# Altium footprint library PCB-QFP-WCH-QFN40-5x5.PcbLib: 1 footprints
Each footprint in its own frame and in the unit in brackets; x right, y up, seen from the top. Pads: shape width x height; smd on the part's side, far side on the other; paste and mask are expansions set on the pad; w line width, h text height; cw(c..) or ccw(c..) is an arc to the next point about the centre after c.
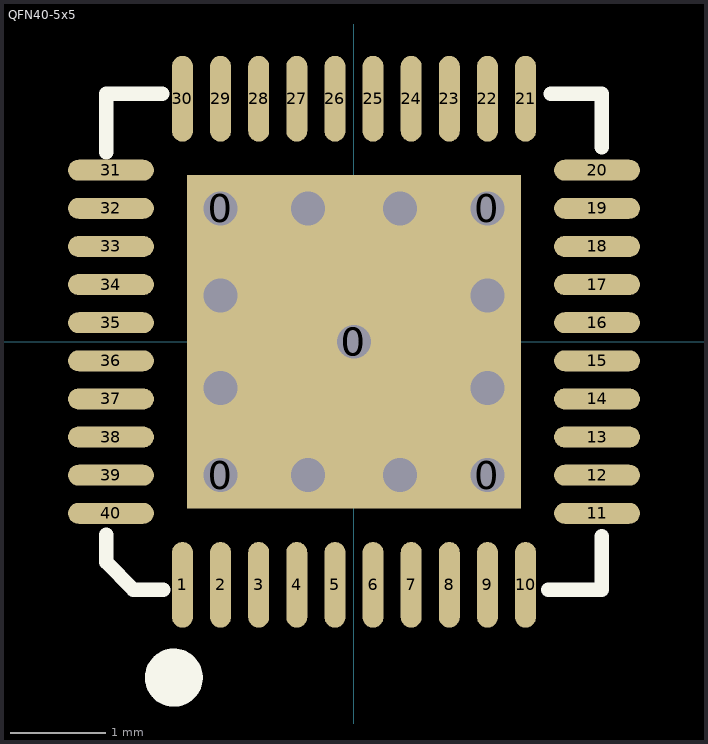
[diagram p0: the footprint, top view; thin cyan lines are the x and y axes]

## QFN40-5x5 [mm]
pads (46):
  round 0.559 hole 0.356 mask+0.102: 0(-1.4,-1.4) 0(-1.4,1.4) 0(0,0) 0(1.4,-1.4) 0(1.4,1.4)
  rect 3.5x3.5 smd mask+0.051: 0(0,0)
  oval 0.22x0.9 smd mask+0.051: 1(-1.8,-2.55) 2(-1.4,-2.55) 3(-1,-2.55) 4(-0.6,-2.55) 5(-0.2,-2.55) 6(0.2,-2.55) 7(0.6,-2.55) 8(1,-2.55) 9(1.4,-2.55) 10(1.8,-2.55) 21(1.8,2.55) 22(1.4,2.55) 23(1,2.55) 24(0.6,2.55) 25(0.2,2.55) 26(-0.2,2.55) 27(-0.6,2.55) 28(-1,2.55) 29(-1.4,2.55) 30(-1.8,2.55)
  oval 0.9x0.22 smd mask+0.051: 11(2.55,-1.8) 12(2.55,-1.4) 13(2.55,-1) 14(2.55,-0.6) 15(2.55,-0.2) 16(2.55,0.2) 17(2.55,0.6) 18(2.55,1) 19(2.55,1.4) 20(2.55,1.8) 31(-2.55,1.8) 32(-2.55,1.4) 33(-2.55,1) 34(-2.55,0.6) 35(-2.55,0.2) 36(-2.55,-0.2) 37(-2.55,-0.6) 38(-2.55,-1) 39(-2.55,-1.4) 40(-2.55,-1.8)
via -1.4,-0.483 diameter 0.61 hole 0.356
via -1.4,0.483 diameter 0.61 hole 0.356
via -0.483,-1.4 diameter 0.61 hole 0.356
via 0.483,-1.4 diameter 0.61 hole 0.356
via 1.4,-0.483 diameter 0.61 hole 0.356
via 1.4,0.483 diameter 0.61 hole 0.356
via 0.483,1.4 diameter 0.61 hole 0.356
via -0.483,1.4 diameter 0.61 hole 0.356
Top Overlay:
  circle w0.305: c-1.89,-3.524 r0.152
  lines w0.152: -2.6,-2.025 -2.6,-2.311 -2.316,-2.6 -2.004,-2.6 ; -2.6,1.988 -2.6,2.6 -2.011,2.6 ; 2.038,-2.6 2.6,-2.6 2.6,-2.043 ; 2.065,2.6 2.6,2.6 2.6,2.039